# Altium footprint library CYT4Bx主板 V1.0.PcbLib: 35 footprints (part 1 of 3)
Each footprint in its own frame and in the unit in brackets; x right, y up, seen from the top. Pads: shape width x height; smd on the part's side, far side on the other; paste and mask are expansions set on the pad; w line width, h text height; cw(c..) or ccw(c..) is an arc to the next point about the centre after c.
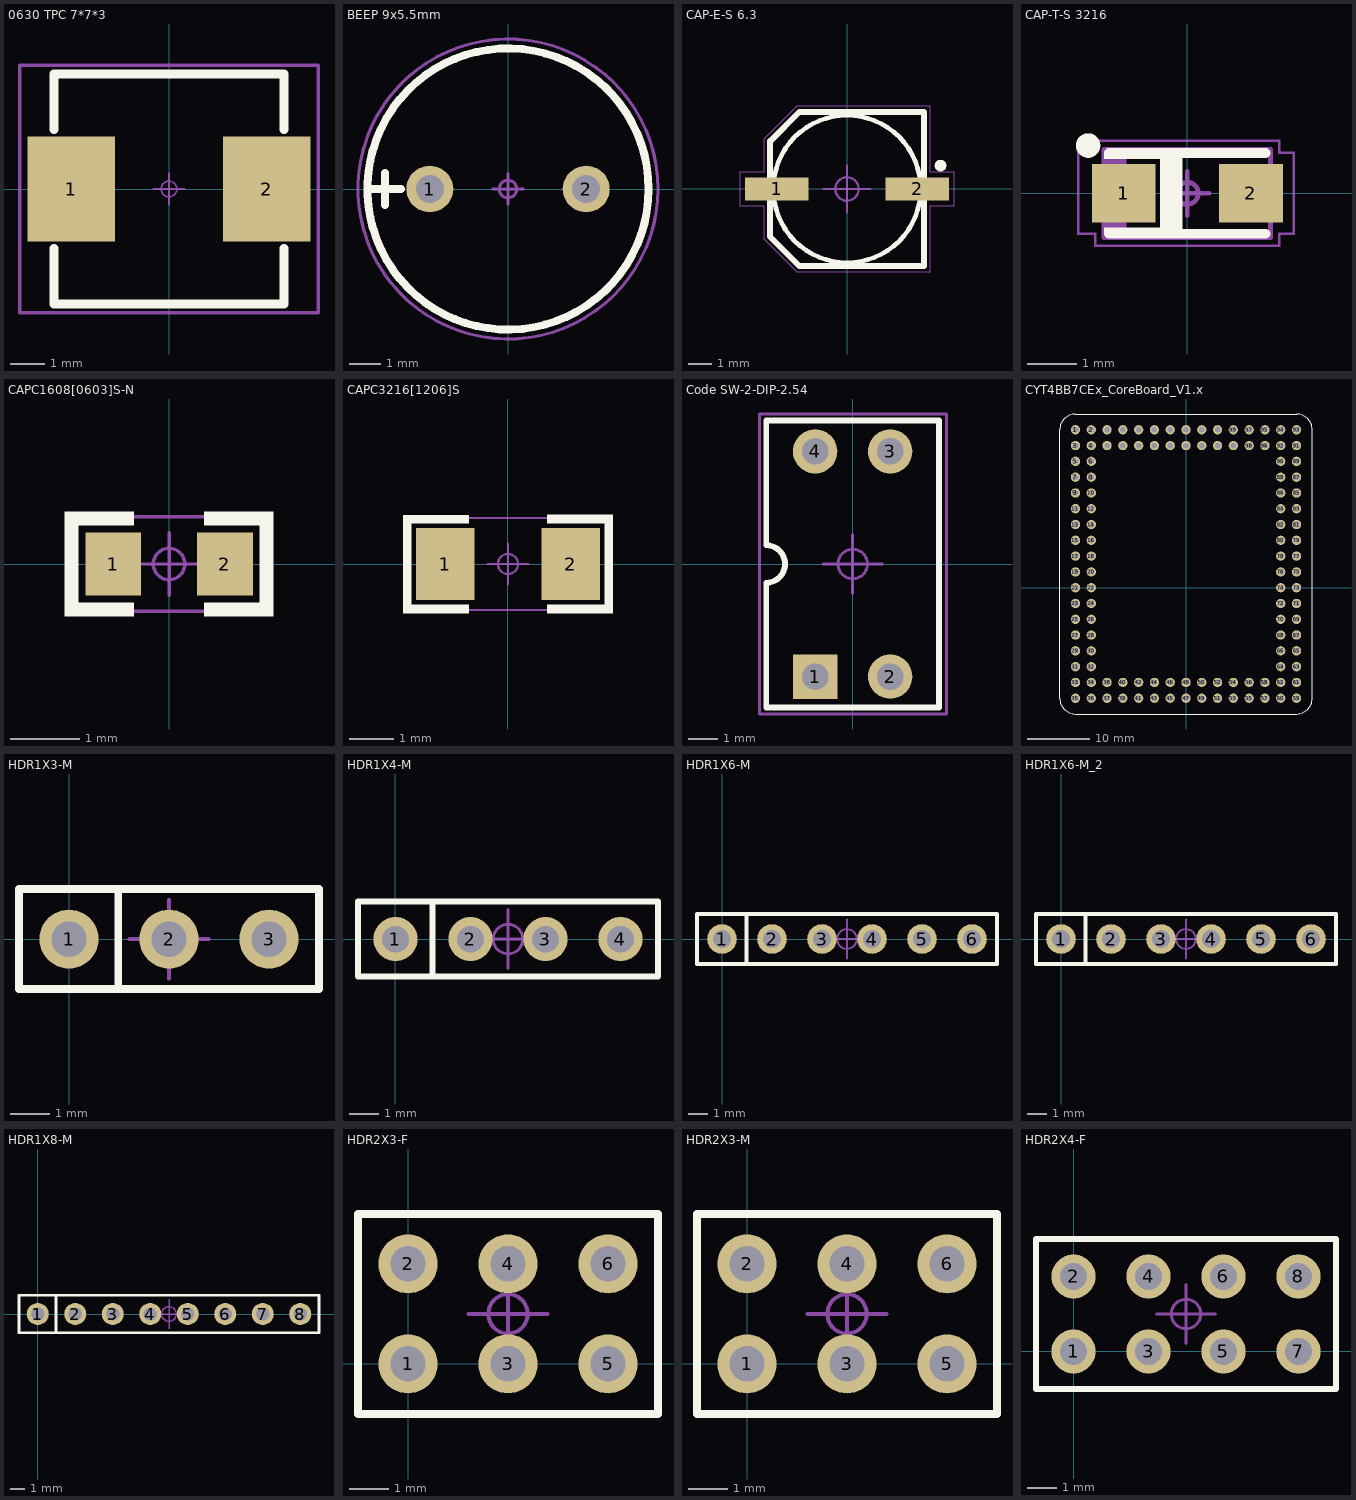
[diagram p0: the footprints below, top view; thin cyan lines are the x and y axes]

## 0630 TPC 7*7*3 [mm] "12mmx12mmx6.5mm 一体成型功率电感"
height 6.5
pads (2):
  rect 2.5x3 smd: 1(-2.8,0) 2(2.8,0)
Top Overlay:
  lines w0.254: -3.3,-1.7 -3.3,-3.3 3.3,-3.3 3.3,-1.7 ; -3.3,1.7 -3.3,3.3 3.3,3.3 3.3,1.7
Top Designator:
  text ".Designator" at -2.251,-0.226 h1
Top Component Outline:
  lines w0.1: -4.275,-3.55 -4.275,3.55 4.275,3.55 4.275,-3.55 -4.275,-3.55
Top Component Center:
  circle w0.05: c0,0 r0.225
  lines w0.05: -0.45,0 0.45,0 ; 0,-0.45 0,0.45
3D body: height 3, standoff 0, extent -3.3,-3.3 3.3,3.3

## BEEP 9x5.5mm [mm] "蜂鸣器 9x5.5mm"
height 0.85
pads (2):
  round 1.5 hole 0.9: 1(-2.5,0) 2(2.5,0)
Top Overlay:
  circle w0.254: c0,0 r4.5
  lines w0.254: -4.496,0 -3.429,0 ; -3.937,-0.508 -3.937,0.508
Top Designator:
  text ".Designator" at 2.251,0.226 h1
Top Component Outline:
  circle w0.1: c0,0 r4.8
Top Component Center:
  circle w0.1: c0,0 r0.28
  lines w0.1: -0.5,0 0.5,0 ; 0,-0.5 0,0.5
3D body "cx-0905c.stp": height 5.05, standoff -5.45, extent -4.8,-4.8 4.8,4.8

## CAP-E-S 6.3 [mm] "贴片 铝电解电容 6.3mm"
height 5.5
pads (2):
  rect 2.7x1 smd: 1(-3,0) 2(3,0)
Top Overlay:
  circle w0.2: c0,0 r3.15
  circle w0.25: c4,1 r0.125
  lines w0.254: -3.3,2.032 -3.3,-2.032 -2.032,-3.3 3.3,-3.3 3.3,3.3 -2.032,3.3 -3.287,2.045
Top Designator:
  text ".Designator" at 2.251,0.226 h1
Top Component Outline:
  region: 3.575,-0.7 3.525,-0.7 3.525,-3.575 3.575,-3.575
  region: 4.6,-0.75 4.6,-0.7 3.525,-0.7 3.525,-0.75
  region: 4.6,0.75 4.55,0.75 4.55,-0.75 4.6,-0.75
  region: 3.525,0.75 3.525,0.7 4.6,0.7 4.6,0.75
  region: 3.575,3.575 3.525,3.575 3.525,0.7 3.575,0.7
  region: -3.54,-2.115 -3.575,-2.15 -2.15,-3.575 -2.115,-3.54
  region: -2.15,-3.525 -2.15,-3.575 3.575,-3.575 3.575,-3.525
  region: -2.115,3.54 -2.15,3.575 -3.575,2.15 -3.54,2.115
  region: 3.575,3.525 3.575,3.575 -2.15,3.575 -2.15,3.525
  rectangle: -3.575,-2.15 -3.525,-0.7
  region: -3.525,-0.75 -3.525,-0.7 -4.6,-0.7 -4.6,-0.75
  rectangle: -4.6,-0.75 -4.55,0.75
  region: -3.525,2.15 -3.575,2.15 -3.575,0.7 -3.525,0.7
  region: -3.525,0.7 -3.525,0.75 -4.6,0.75 -4.6,0.7
Top Component Center:
  circle w0.1: c0,0 r0.5
  lines w0.1: -1,0 1,0 ; 0,-1 0,1
3D body "SL-E.step": height 5.2, standoff 0, extent -3.5,-3.302 3.5,3.298

## CAP-T-S 3216 [mm] "贴片 钽电容 A型 3216"
height 1.8
pads (2):
  rect 1.3x1.2 smd: 1(-1.3,0) 2(1.3,0)
Top Overlay:
  circle w0.25: c-2.025,0.975 r0.125
  rectangle: -0.552,-0.9 -0.102,0.85
  region: -0.375,-0.7 -1.7,-0.7 -1.7,-0.825 -0.375,-0.825
  rectangle: -1.7,0.7 -0.375,0.85
  lines w0.2: -1.6,-0.825 1.6,-0.825 ; -1.6,0.825 1.6,0.825
Top Designator:
  text ".Designator" at -2.251,-0.151 h1
Mechanical 13:
  rectangle: -1.7,-0.9 -1.243,0.9
  lines w0.1: -1.7,-0.9 1.7,-0.9 1.7,0.9 -1.7,0.9 -1.7,-0.9
Top Component Outline:
  region: 2.2,0.85 2.15,0.85 2.15,-0.85 2.2,-0.85
  region: -1.9,-1.05 -1.9,-1.1 1.9,-1.1 1.9,-1.05
  region: 1.9,1.05 1.9,1.1 -2.251,1.1 -2.251,1.05
  rectangle: -2.251,-0.85 -2.201,1.1
  region: 1.85,0.85 1.85,0.8 2.2,0.8 2.2,0.85
  rectangle: 1.85,0.8 1.9,1.1
  region: 2.2,-0.85 2.2,-0.8 1.85,-0.8 1.85,-0.85
  rectangle: 1.85,-1.1 1.9,-0.8
  region: -1.85,-0.85 -1.85,-0.8 -2.251,-0.8 -2.251,-0.85
  region: -1.85,-0.8 -1.9,-0.8 -1.9,-1.1 -1.85,-1.1
Top Component Center:
  circle w0.1: c0,0 r0.225
  lines w0.1: -0.45,0 0.45,0 ; 0,-0.45 0,0.45
3D body "TAJ-A.STEP": height 1.6, standoff 0, extent -1.6,-0.8 1.6,0.8

## CAPC1608[0603]S-N [mm] "0603贴片电容 有丝印 2脚 1.60x0.80mm IPC中密度"
height 0.85
pads (2):
  rect 0.8x0.9 smd: 1(-0.8,0) 2(0.8,0)
Top Overlay:
  region: 1.5,-0.55 0.5,-0.55 0.5,-0.75 1.5,-0.75
  region: 1.499,-0.751 1.499,0.749 1.299,0.749 1.299,-0.751
  region: 1.5,0.75 0.5,0.75 0.5,0.55 1.5,0.55
  rectangle: -1.5,0.55 -0.5,0.75
  region: -1.501,0.749 -1.501,-0.751 -1.301,-0.751 -1.301,0.749
  rectangle: -1.5,-0.75 -0.5,-0.55
Top Designator:
  text ".Designator" at 2.251,0.226 h1
Top Component Outline:
  region: -1.45,-0.65 -1.45,-0.7 1.45,-0.7 1.45,-0.65
  region: 1.45,0.7 1.4,0.7 1.4,-0.7 1.45,-0.7
  region: 1.45,0.65 1.45,0.7 -1.45,0.7 -1.45,0.65
  rectangle: -1.45,-0.7 -1.4,0.7
Top Component Center:
  circle w0.05: c0,0 r0.225
  lines w0.05: -0.45,0 0.45,0 ; 0,-0.45 0,0.45
3D body: height 0.79, standoff 0, extent -0.45,-0.406 0.45,0.406
3D body: height 0.79, standoff 0, extent 0.45,-0.406 0.8,0.407
3D body: height 0.79, standoff 0, extent -0.8,-0.406 -0.45,0.406

## CAPC3216[1206]S [mm] "1206贴片电容 有丝印 2脚 3.20x1.60mm IPC中密度"
height 1.35
pads (2):
  rect 1.3x1.6 smd: 1(-1.4,0) 2(1.4,0)
Top Overlay:
  region: 2.346,-0.906 0.871,-0.906 0.871,-1.106 2.346,-1.106
  rectangle: -2.35,-1.1 -0.875,-0.9
  region: 2.346,1.106 0.871,1.106 0.871,0.906 2.346,0.906
  rectangle: -2.35,0.9 -0.875,1.1
  region: 2.35,-1.099 2.35,1.101 2.15,1.101 2.15,-1.099
  region: -2.35,1.1 -2.35,-1.1 -2.15,-1.1 -2.15,1.1
Top Designator:
  text ".Designator" at 2.251,0.226 h1
Top Component Outline:
  rectangle: -2.3,-1.05 -2.25,1.05
  region: 2.3,1 2.3,1.05 -2.3,1.05 -2.3,1
  region: 2.3,1.05 2.25,1.05 2.25,-1.05 2.3,-1.05
  region: -2.3,-1 -2.3,-1.05 2.3,-1.05 2.3,-1
Top Component Center:
  circle w0.05: c0,0 r0.225
  lines w0.05: -0.45,0 0.45,0 ; 0,-0.45 0,0.45
3D body "C 1206.STEP": height 1.21, standoff -0.01, extent -1.6,-0.81 1.6,0.81

## Code SW-2-DIP-2.54 [mm] "2位直插拨码开关 间距2.54"
height 1.2
pads (4):
  rect 1.5x1.5 hole 0.9: 1(-1.27,-3.81)
  round 1.5 hole 0.9: 2(1.27,-3.81) 3(1.27,3.81) 4(-1.27,3.81)
Top Overlay:
  lines w0.2: -2.925,-4.85 2.925,-4.85 2.925,4.85 -2.925,4.85 -2.925,0.635 cw(c-2.925,0) -2.925,-0.635 -2.925,-4.85
Top Designator:
  text ".Designator" at -2.251,-0.226 h1
Top Component Outline:
  lines w0.1: -3.15,-5.075 -3.15,5.075 3.175,5.075 3.175,-5.075 -3.15,-5.075
Top Component Center:
  circle w0.1: c0,0 r0.5
  lines w0.1: -1,0 1,0 ; 0,-1 0,1
3D body "Switch-DIP-2.STEP": height 7.03, standoff -3.67, extent -3.04,-4.95 3.04,4.95

## CYT4BB7CEx_CoreBoard_V1.x [mm] "逐飞科技CYT4BB7CEx核心板V1.x整体原理，可直接使用"
height 0.85
pads (116):
  round 1.5 hole 0.9: 1(-17.78,25.4) 2(-15.24,25.4) 3(-17.78,22.86) 4(-15.24,22.86) 5(-17.78,20.32) 6(-15.24,20.32) 7(-17.78,17.78) 8(-15.24,17.78) 9(-17.78,15.24) 10(-15.24,15.24) 11(-17.78,12.7) 12(-15.24,12.7) 13(-17.78,10.16) 14(-15.24,10.16) 15(-17.78,7.62) 16(-15.24,7.62) 17(-17.78,5.08) 18(-15.24,5.08) 19(-17.78,2.54) 20(-15.24,2.54) 21(-17.78,0) 22(-15.24,0) 23(-17.78,-2.54) 24(-15.24,-2.54) 25(-17.78,-5.08) 26(-15.24,-5.08) 27(-17.78,-7.62) 28(-15.24,-7.62) 29(-17.78,-10.16) 30(-15.24,-10.16) 31(-17.78,-12.7) 32(-15.24,-12.7) 33(-17.78,-15.24) 34(-15.24,-15.24) 35(-17.78,-17.78) 36(-15.24,-17.78) 37(-12.7,-17.78) 38(-12.7,-15.24) 39(-10.16,-17.78) 40(-10.16,-15.24) 41(-7.62,-17.78) 42(-7.62,-15.24) 43(-5.08,-17.78) 44(-5.08,-15.24) 45(-2.54,-17.78) 46(-2.54,-15.24) 47(0,-17.78) 48(0,-15.24) 49(2.54,-17.78) 50(2.54,-15.24) 51(5.08,-17.78) 52(5.08,-15.24) 53(7.62,-17.78) 54(7.62,-15.24) 55(10.16,-17.78) 56(10.16,-15.24) 57(12.7,-17.78) 58(12.7,-15.24) 59(17.78,-17.78) 60(15.24,-17.78) 61(17.78,-15.24) 62(15.24,-15.24) 63(17.78,-12.7) 64(15.24,-12.7) 65(17.78,-10.16) 66(15.24,-10.16) 67(17.78,-7.62) 68(15.24,-7.62) 69(17.78,-5.08) 70(15.24,-5.08) 71(17.78,-2.54) 72(15.24,-2.54) 73(17.78,0) 74(15.24,0) 75(17.78,2.54) 76(15.24,2.54) 77(17.78,5.08) 78(15.24,5.08) 79(17.78,7.62) 80(15.24,7.62) 81(17.78,10.16) 82(15.24,10.16) 83(17.78,12.7) 84(15.24,12.7) 85(17.78,15.24) 86(15.24,15.24) 87(17.78,17.78) 88(15.24,17.78) 89(17.78,20.32) 90(15.24,20.32) 91(17.78,22.86) 92(15.24,22.86) 93(17.78,25.4) 94(15.24,25.4) 95(12.7,25.4) 96(12.7,22.86) 97(10.16,25.4) 98(10.16,22.86) 99(7.62,25.4) 100(7.62,22.86) 101(5.08,25.4) 102(5.08,22.86) 103(2.54,25.4) 104(2.54,22.86) 105(0,25.4) 106(0,22.86) 107(-2.54,25.4) 108(-2.54,22.86) 109(-5.08,25.4) 110(-5.08,22.86) 111(-7.62,25.4) 112(-7.62,22.86) 113(-10.16,25.4) 114(-10.16,22.86) 115(-12.7,25.4) 116(-12.7,22.86)
Top Overlay:
  lines w0.2: -20.32,-17.78 ccw(c-17.78,-17.78) -17.78,-20.32 17.78,-20.32 ccw(c17.78,-17.78) 20.32,-17.78 20.32,25.4 ccw(c17.78,25.4) 17.78,27.94 -17.78,27.94 ccw(c-17.78,25.4) -20.32,25.4 -20.32,-17.78
3D body "CYT4BB7CEx_CoreBoard.step": height 18.54, standoff -0.15, extent -20.32,-20.32 20.32,27.94
3D body "2x18.stp": height 8.5, standoff -3.05, extent -19.05,-19.3 -13.97,26.92
3D body "2x18.stp": height 8.5, standoff -3.05, extent 13.97,-19.3 19.05,26.92
3D body "2x11.stp": height 8.5, standoff -3.05, extent -14.22,-19.05 14.22,-13.97
3D body "2x11.stp": height 8.5, standoff -3.05, extent -14.22,21.59 14.22,26.67

## HDR1X3-M [mm] "1x3pin, 2.54mm间距, 直插, 直排针"
height 0.85
pads (3):
  round 1.5 hole 0.9: 1(0,0) 2(2.54,0) 3(5.08,0)
Top Overlay:
  lines w0.2: 1.25,-1.25 1.25,1.25 ; -1.27,-1.27 -1.27,1.27 6.35,1.27 6.35,-1.27 -1.27,-1.27
Top Designator:
  text ".Designator" at 4.791,0.226 h1
Top Component Outline:
  lines w0.1: -1.27,-1.27 -1.27,1.275 6.35,1.275 6.35,-1.27 -1.27,-1.27
Top Component Center:
  circle w0.1: c2.54,0 r0.5
  lines w0.1: 1.54,0 3.54,0 ; 2.54,-1 2.54,1
3D body "1001-3.STEP": height 8.54, standoff -3, extent -1.27,-1.27 6.35,1.27

## HDR1X4-M [mm] "1x4pin, 2.54mm间距, 直插, 直排针"
height 0.85
pads (4):
  round 1.5 hole 0.9: 1(0,0) 2(2.54,0) 3(5.08,0) 4(7.62,0)
Top Overlay:
  lines w0.2: 1.25,-1.25 1.25,1.25 ; -1.27,-1.27 -1.27,1.27 8.89,1.27 8.89,-1.27 -1.27,-1.27
Top Designator:
  text ".Designator" at 6.061,0.226 h1
Top Component Outline:
  lines w0.1: -1.27,-1.27 8.89,-1.27 8.89,1.275 -1.27,1.275 -1.27,-1.27
Top Component Center:
  circle w0.1: c3.81,0 r0.5
  lines w0.1: 2.81,0 4.81,0 ; 3.81,-1 3.81,1
3D body "1001-4.STEP": height 8.54, standoff -3, extent -1.27,-1.27 8.89,1.27

## HDR1X6-M [mm] "1x6pin, 直插, 直排针, 2.54mm间距"
height 0.85
pads (6):
  round 1.5 hole 0.9: 1(0,0) 2(2.54,0) 3(5.08,0) 4(7.62,0) 5(10.16,0) 6(12.7,0)
Top Overlay:
  lines w0.2: 1.25,-1.25 1.25,1.25 ; -1.27,-1.27 -1.27,1.27 13.97,1.27 13.97,-1.27 -1.27,-1.27
Top Designator:
  text ".Designator" at 8.601,0.226 h1
Top Component Outline:
  lines w0.1: -1.27,-1.27 -1.27,1.27 13.97,1.27 13.97,-1.27 -1.27,-1.27
Top Component Center:
  circle w0.1: c6.35,0 r0.5
  lines w0.1: 5.35,0 7.35,0 ; 6.35,-1 6.35,1
3D body "1001-6.STEP": height 8.54, standoff -3, extent -1.27,-1.27 13.97,1.27

## HDR1X6-M_2 [mm]
pads (6):
  round 1.5 hole 0.9: 1(0,0) 2(2.54,0) 3(5.08,0) 4(7.62,0) 5(10.16,0) 6(12.7,0)
Top Overlay:
  lines w0.2: 1.25,-1.25 1.25,1.25 ; -1.27,-1.27 13.97,-1.27 13.97,1.27 -1.27,1.27 -1.27,-1.27
Top Designator:
  text ".Designator" at 8.601,0.226 h1
Top Component Outline:
  lines w0.1: -1.27,-1.27 13.97,-1.27 13.97,1.27 -1.27,1.27 -1.27,-1.27
Top Component Center:
  circle w0.1: c6.35,0 r0.5
  lines w0.1: 5.35,0 7.35,0 ; 6.35,-1 6.35,1
3D body "1001-6.STEP": height 8.54, standoff -3, extent -1.27,-1.27 13.97,1.27

## HDR1X8-M [mm] "1x7pin, 2.54mm间距, 直插, 直排针"
height 0.85
pads (8):
  round 1.5 hole 0.9: 1(0,0) 2(2.54,0) 3(5.08,0) 4(7.62,0) 5(10.16,0) 6(12.7,0) 7(15.24,0) 8(17.78,0)
Top Overlay:
  lines w0.2: 1.25,-1.25 1.25,1.25 ; -1.27,-1.27 -1.27,1.27 19.05,1.27 19.05,-1.27 -1.27,-1.27
Top Designator:
  text ".Designator" at 6.639,-0.226 h1
Top Component Outline:
  lines w0.1: -1.27,-1.27 -1.27,1.27 19.05,1.27 19.05,-1.27 -1.27,-1.27
Top Component Center:
  circle w0.1: c8.89,0 r0.5
  lines w0.1: 7.89,0 9.89,0 ; 8.89,-1 8.89,1
3D body "1001-8.STEP": height 8.54, standoff -3, extent -1.27,-1.27 19.05,1.27

## HDR2X3-F [mm] "2x3pin, 2.54mm间距, 直插, 直排母"
height 0.85
pads (6):
  round 1.5 hole 0.9: 1(0,0) 2(0,2.54) 3(2.54,0) 4(2.54,2.54) 5(5.08,0) 6(5.08,2.54)
Top Overlay:
  lines w0.2: 1.482,-1.27 6.35,-1.27 ; 6.35,-1.27 6.35,3.81 -1.27,3.81 -1.27,-1.27 6.35,-1.27
Top Designator:
  text ".Designator" at 6.303,1.406 h1
Top Component Outline:
  lines w0.1: -1.27,-1.275 6.35,-1.275 6.35,3.81 -1.27,3.81 -1.27,-1.275
Top Component Center:
  circle w0.1: c2.54,1.27 r0.5
  lines w0.1: 1.54,1.27 3.54,1.27 ; 2.54,0.27 2.54,2.27
3D body "2x3.stp": height 8.5, standoff -3.05, extent -1.52,-1.27 6.6,3.81

## HDR2X3-M [mm] "2x3pin, 2.54mm间距, 直插, 直排针"
height 0.85
pads (6):
  round 1.5 hole 0.9: 1(0,0) 2(0,2.54) 3(2.54,0) 4(2.54,2.54) 5(5.08,0) 6(5.08,2.54)
Top Overlay:
  lines w0.2: 1.482,-1.27 6.35,-1.27 ; 6.35,-1.27 -1.27,-1.27 -1.27,3.81 6.35,3.81 6.35,-1.27
Top Designator:
  text ".Designator" at 4.791,1.496 h1
Top Component Outline:
  lines w0.1: -1.27,-1.275 -1.27,3.81 6.35,3.81 6.35,-1.275 -1.27,-1.275
Top Component Center:
  circle w0.1: c2.54,1.27 r0.5
  lines w0.1: 1.54,1.27 3.54,1.27 ; 2.54,0.27 2.54,2.27
3D body "HDR2x3.STEP": height 8.54, standoff -3, extent -1.27,-1.27 6.35,3.81

## HDR2X4-F [mm] "2x4pin, 2.54mm间距, 直插, 直排座"
height 0.85
pads (8):
  round 1.5 hole 0.9: 1(0,0) 2(0,2.54) 3(2.54,0) 4(2.54,2.54) 5(5.08,0) 6(5.08,2.54) 7(7.62,0) 8(7.62,2.54)
Top Overlay:
  lines w0.2: -1.27,-1.27 8.89,-1.27 8.89,3.81 -1.27,3.81 -1.27,-1.27
Top Designator:
  text ".Designator" at 1.559,1.044 h1
Top Component Outline:
  lines w0.1: -1.27,-1.27 8.89,-1.27 8.89,3.81 -1.27,3.81 -1.27,-1.27
Top Component Center:
  circle w0.1: c3.81,1.27 r0.5
  lines w0.1: 2.81,1.27 4.81,1.27 ; 3.81,0.27 3.81,2.27
3D body "2x4.stp": height 8.5, standoff -3.05, extent -1.505,-1.265 9.155,3.815